# EAGLE library part WE-SPEEDY_DESIGN_SERVICE_9PIN (library Wurth_Elektronik_Passive_rev15e)
WE-Speedy Design Service, 9 Pin - Any application that fits package style - Switch Mode Power: Flyback, Forward, Push-Pull, Coupled Inductor -- Telecom Applications: xDSL, POTS Splitter Inductors
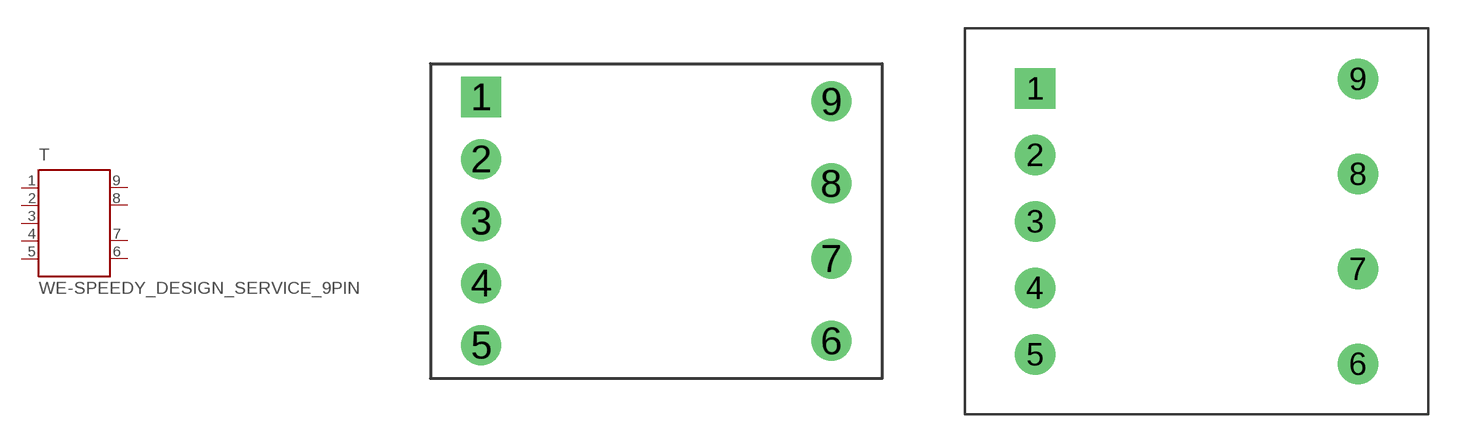
[diagram p33: symbol with the pads of WE_E13/7/4_THT_HORIZONTAL_9PIN; footprints WE_E13/7/4_THT_HORIZONTAL_9PIN, WE_EE16/8/5_THT_HORIZONTAL_9PIN]

Designator prefix T

## WE-SPEEDY_DESIGN_SERVICE_9PIN_EE13/7/4_THT  [WE_E13/7/4_THT_HORIZONTAL_9PIN]
1  5  pas
2  4  pas
3  3  pas
4  2  pas
5  1  pas
6  9  pas
7  8  pas
8  7  pas
9  6  pas

## WE-SPEEDY_DESIGN_SERVICE_9PIN_EE16/8/5_THT  [WE_EE16/8/5_THT_HORIZONTAL_9PIN]
Pads as for WE_E13/7/4_THT_HORIZONTAL_9PIN

## Footprint WE_E13/7/4_THT_HORIZONTAL_9PIN (pad centres in mm)
Transformer, E13/7/4 THT Horizontal 9 Pin
drill 1.17 square: 1 -7.675,5.44
drill 1.17: 2 -7.675,2.72; 3 -7.675,0; 4 -7.675,-2.72; 5 -7.675,-5.44; 6 7.675,-5.25; 7 7.675,-1.65; 8 7.675,1.65; 9 7.675,5.25

## Footprint WE_EE16/8/5_THT_HORIZONTAL_9PIN (pad centres in mm)
Transformer, EE16/8/5 THT Horizontal 9 Pin
drill 1.42 square: 1 -8.5,7
drill 1.42: 2 -8.5,3.5; 3 -8.5,0; 4 -8.5,-3.5; 5 -8.5,-7; 6 8.5,-7.5; 7 8.5,-2.5; 8 8.5,2.5; 9 8.5,7.5